# Altium integrated library Linear Technology Power Management Hot Swap Controllers.IntLib: 992 symbols (part 33 of 93)
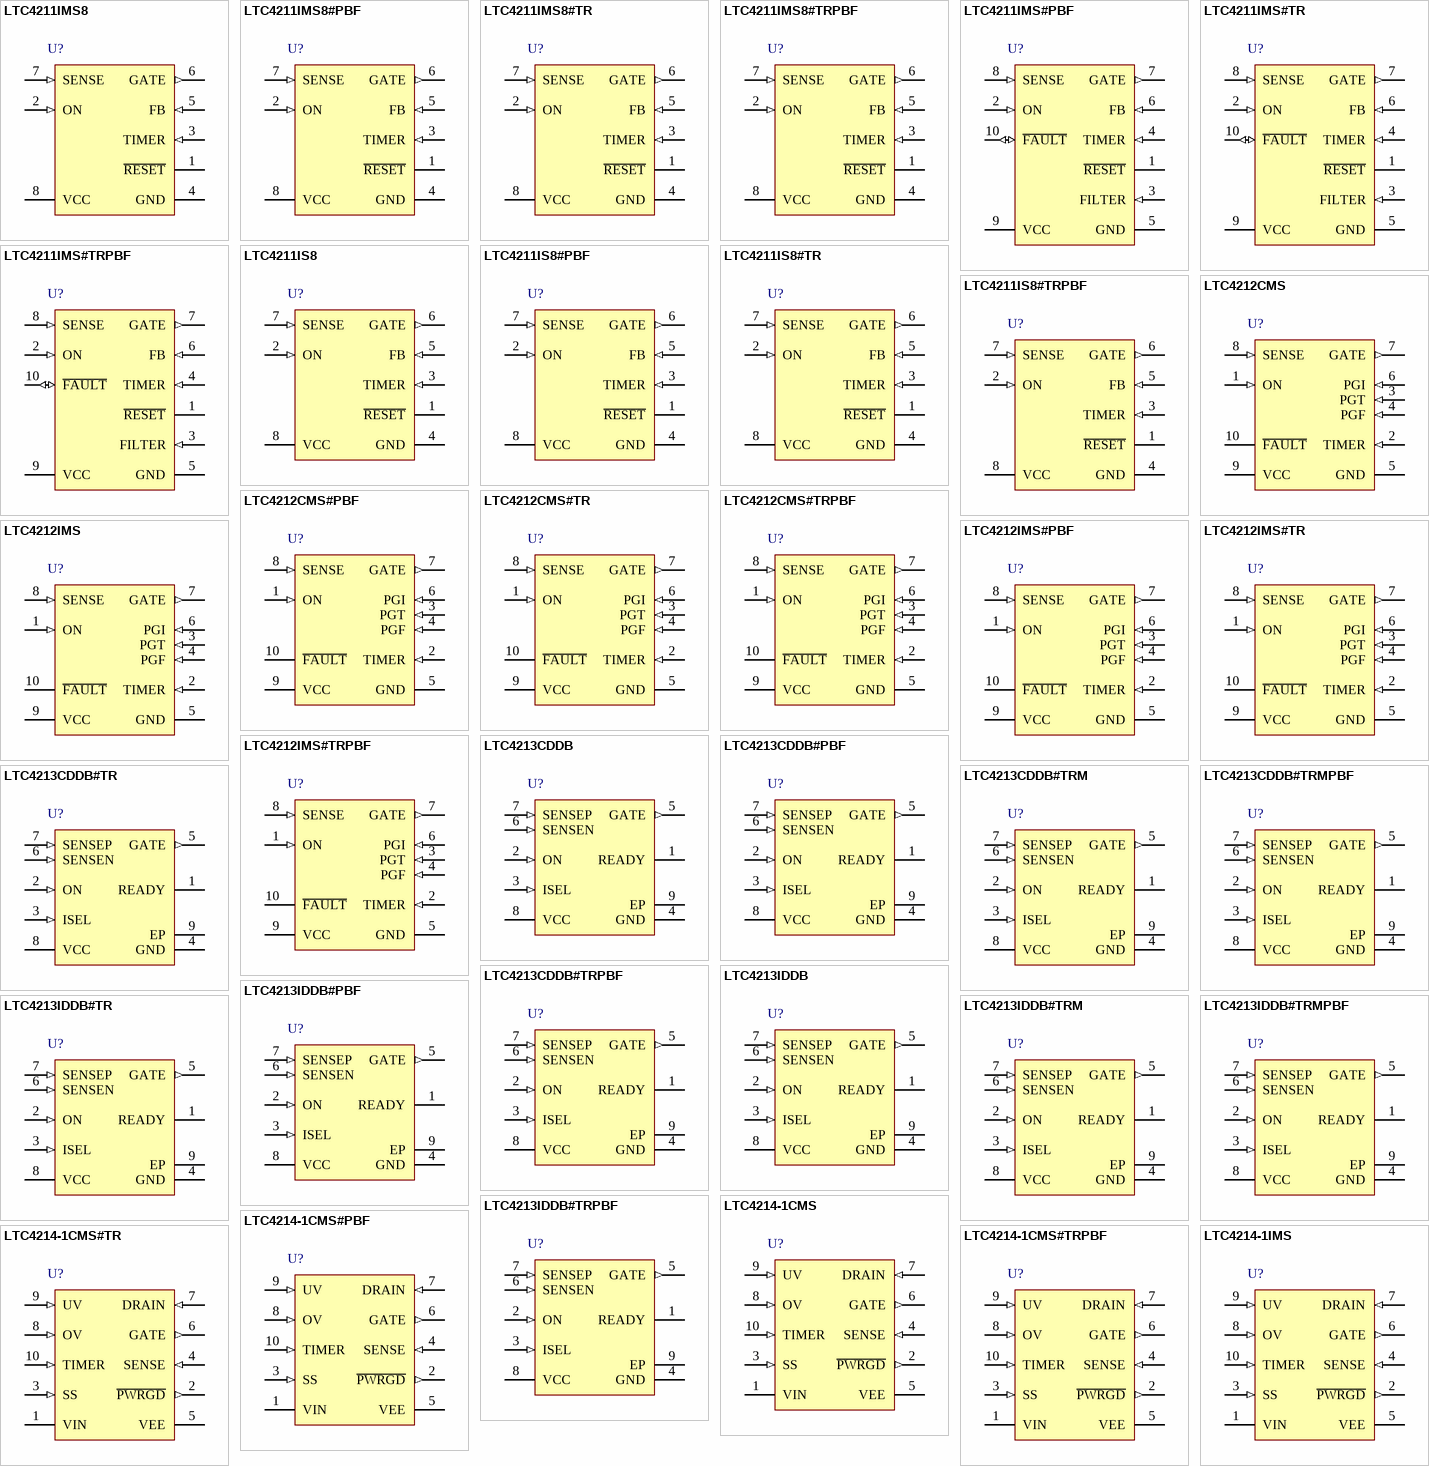
[diagram p69: symbols LTC4211IMS8 to LTC4214-1IMS]

## LTC4213CDDB#TR
designator U?
No RSENSE(TM) Electronic Circuit Breaker, 0 to 6 V Vin, 8-pin SON (DDB-8), 0 to 70 degC, Tape and Reel; Manufacturer: Linear Technology; PartNumber: LTC4213CDDB#TR; Circuit Breaker Accuracy(%): 10; Circuit Breaker Threshold: 25 mV, 50 mV, 100mV; Circuit Breakers(#): 1; Extended Temp: C, I; Fast Comparator: yes; Vin Range: 0 to 6 V; PackageVersion: Rev. B, 06/2010; PackageReference: DDB-8; PackageDescription: 8-Pin Plastic DFN, Body 3 x 2 mm, Pitch 0.5 mm; Active Limiting: no; Fault: no; Foldback: no; Packing: Tape and Reel; Power Good: no; Reset: no; RoHS: FALSE; Mounting Technology: Surface Mount; Code_JEDEC: MO-229; ComponentLink1Description: Manufacturer URL; ComponentLink1URL: http://www.linear.com/; ComponentLink2Description: Datasheet; ComponentLink2URL: http://cds.linear.com/docs/en/datasheet/4213f.pdf; ComponentLink3Description: Package Specification; ComponentLink3URL: http://cds.linear.com/docs/en/packaging/DFN_8_05-08-1702.pdf
footprint LT-DDB-8_V (SON, 8-Leads, Body 3x2mm, Pitch 0.5mm, Thermal Pad 2.2x0.61mm)
pins: 1 READY (hiz) "READY Status Output. Open drain output that goes high impedance when the external MOSFET is on and the circuit breaker is armed. Otherwise this pin pulls low.", 2 ON (in) "ON Control Input. The LTC4213 is in reset mode when the ON pin is below 0.4V. When the ON pin increases above 0.8V, the device starts up and the GATE pulls up with a 100uA current source. When the ON pin drops below 0.76V, (See Datasheet)", 3 ISEL (in) "Threshold Select Input. With the ISEL pin grounded, float or tied to VCC the VCB is set to 25mV, 50mV or 100mV, respectively. The corresponding VCB(FAST) values are 100mV, 175mV and 325mV.", 4 GND (power) "Device Ground.", 5 GATE (out) "GATE Drive Output. An internal charge pump supplies 100uA pull-up current to the gate of the external N-channel MOSFET. Internal circuitry limits the voltage between the GATE and SENSEN pins to a safe gate drive voltage of (See Datasheet)", 6 SENSEN (in) "Circuit Breaker Negative Sense Input. Connect this pin to the source of the external MOSFET. During reset or fault mode, the SENSEN pin discharges the output to ground with 280uA.", 7 SENSEP (in) "Circuit Breaker Positive Sense Input. Connect this pin to the drain of external N-channel MOSFET. The circuit breaker trips when the voltage across SENSEP and SENSEN exceeds VCB. The input common mode range of the circuit (See Datasheet)", 8 VCC (power) "Bias Supply Voltage Input. Normal operation is between 2.3V and 6V. An internal under-voltage lockout circuit disables the device when VCC < 2.07V.", 9 EP "Exposed pad may be left open or connected to device ground."

## LTC4213CDDB#TRM
designator U?
No RSENSE(TM) Electronic Circuit Breaker, 0 to 6 V Vin, 8-pin SON (DDB-8), 0 to 70 degC, Mini Tape and Reel; Manufacturer: Linear Technology; PartNumber: LTC4213CDDB#TRM; Circuit Breaker Accuracy(%): 10; Circuit Breaker Threshold: 25 mV, 50 mV, 100mV; Circuit Breakers(#): 1; Extended Temp: C, I; Fast Comparator: yes; Vin Range: 0 to 6 V; PackageVersion: Rev. B, 06/2010; PackageReference: DDB-8; PackageDescription: 8-Pin Plastic DFN, Body 3 x 2 mm, Pitch 0.5 mm; Active Limiting: no; Fault: no; Foldback: no; Packing: Mini Tape and Reel; Power Good: no; Reset: no; RoHS: FALSE; Mounting Technology: Surface Mount; Code_JEDEC: MO-229; ComponentLink1Description: Manufacturer URL; ComponentLink1URL: http://www.linear.com/; ComponentLink2Description: Datasheet; ComponentLink2URL: http://cds.linear.com/docs/en/datasheet/4213f.pdf; ComponentLink3Description: Package Specification; ComponentLink3URL: http://cds.linear.com/docs/en/packaging/DFN_8_05-08-1702.pdf
footprint LT-DDB-8_V (SON, 8-Leads, Body 3x2mm, Pitch 0.5mm, Thermal Pad 2.2x0.61mm)
pins: 1 READY (hiz) "READY Status Output. Open drain output that goes high impedance when the external MOSFET is on and the circuit breaker is armed. Otherwise this pin pulls low.", 2 ON (in) "ON Control Input. The LTC4213 is in reset mode when the ON pin is below 0.4V. When the ON pin increases above 0.8V, the device starts up and the GATE pulls up with a 100uA current source. When the ON pin drops below 0.76V, (See Datasheet)", 3 ISEL (in) "Threshold Select Input. With the ISEL pin grounded, float or tied to VCC the VCB is set to 25mV, 50mV or 100mV, respectively. The corresponding VCB(FAST) values are 100mV, 175mV and 325mV.", 4 GND (power) "Device Ground.", 5 GATE (out) "GATE Drive Output. An internal charge pump supplies 100uA pull-up current to the gate of the external N-channel MOSFET. Internal circuitry limits the voltage between the GATE and SENSEN pins to a safe gate drive voltage of (See Datasheet)", 6 SENSEN (in) "Circuit Breaker Negative Sense Input. Connect this pin to the source of the external MOSFET. During reset or fault mode, the SENSEN pin discharges the output to ground with 280uA.", 7 SENSEP (in) "Circuit Breaker Positive Sense Input. Connect this pin to the drain of external N-channel MOSFET. The circuit breaker trips when the voltage across SENSEP and SENSEN exceeds VCB. The input common mode range of the circuit (See Datasheet)", 8 VCC (power) "Bias Supply Voltage Input. Normal operation is between 2.3V and 6V. An internal under-voltage lockout circuit disables the device when VCC < 2.07V.", 9 EP "Exposed pad may be left open or connected to device ground."

## LTC4213CDDB#TRMPBF
designator U?
No RSENSE(TM) Electronic Circuit Breaker, 0 to 6 V Vin, 8-pin SON (DDB-8), 0 to 70 degC, Pb-Free, Mini Tape and Reel; Manufacturer: Linear Technology; PartNumber: LTC4213CDDB#TRMPBF; Circuit Breaker Accuracy(%): 10; Circuit Breaker Threshold: 25 mV, 50 mV, 100mV; Circuit Breakers(#): 1; Extended Temp: C, I; Fast Comparator: yes; Vin Range: 0 to 6 V; PackageVersion: Rev. B, 06/2010; PackageReference: DDB-8; PackageDescription: 8-Pin Plastic DFN, Body 3 x 2 mm, Pitch 0.5 mm; Supplier 1: Digi-Key; Supplier Part Number 1: LTC4213CDDB#TRMPBF-ND; Active Limiting: no; Fault: no; Foldback: no; Packing: Mini Tape and Reel; Power Good: no; Reset: no; RoHS: TRUE; Mounting Technology: Surface Mount; Code_JEDEC: MO-229; ComponentLink1Description: Manufacturer URL; ComponentLink1URL: http://www.linear.com/; ComponentLink2Description: Datasheet; ComponentLink2URL: http://cds.linear.com/docs/en/datasheet/4213f.pdf; ComponentLink3Description: Package Specification; ComponentLink3URL: http://cds.linear.com/docs/en/packaging/DFN_8_05-08-1702.pdf
footprint LT-DDB-8_V (SON, 8-Leads, Body 3x2mm, Pitch 0.5mm, Thermal Pad 2.2x0.61mm)
pins: 1 READY (hiz) "READY Status Output. Open drain output that goes high impedance when the external MOSFET is on and the circuit breaker is armed. Otherwise this pin pulls low.", 2 ON (in) "ON Control Input. The LTC4213 is in reset mode when the ON pin is below 0.4V. When the ON pin increases above 0.8V, the device starts up and the GATE pulls up with a 100uA current source. When the ON pin drops below 0.76V, (See Datasheet)", 3 ISEL (in) "Threshold Select Input. With the ISEL pin grounded, float or tied to VCC the VCB is set to 25mV, 50mV or 100mV, respectively. The corresponding VCB(FAST) values are 100mV, 175mV and 325mV.", 4 GND (power) "Device Ground.", 5 GATE (out) "GATE Drive Output. An internal charge pump supplies 100uA pull-up current to the gate of the external N-channel MOSFET. Internal circuitry limits the voltage between the GATE and SENSEN pins to a safe gate drive voltage of (See Datasheet)", 6 SENSEN (in) "Circuit Breaker Negative Sense Input. Connect this pin to the source of the external MOSFET. During reset or fault mode, the SENSEN pin discharges the output to ground with 280uA.", 7 SENSEP (in) "Circuit Breaker Positive Sense Input. Connect this pin to the drain of external N-channel MOSFET. The circuit breaker trips when the voltage across SENSEP and SENSEN exceeds VCB. The input common mode range of the circuit (See Datasheet)", 8 VCC (power) "Bias Supply Voltage Input. Normal operation is between 2.3V and 6V. An internal under-voltage lockout circuit disables the device when VCC < 2.07V.", 9 EP "Exposed pad may be left open or connected to device ground."

## LTC4213CDDB#TRPBF
designator U?
No RSENSE(TM) Electronic Circuit Breaker, 0 to 6 V Vin, 8-pin SON (DDB-8), 0 to 70 degC, Pb-Free, Tape and Reel; Manufacturer: Linear Technology; PartNumber: LTC4213CDDB#TRPBF; Circuit Breaker Accuracy(%): 10; Circuit Breaker Threshold: 25 mV, 50 mV, 100mV; Circuit Breakers(#): 1; Extended Temp: C, I; Fast Comparator: yes; Vin Range: 0 to 6 V; PackageVersion: Rev. B, 06/2010; PackageReference: DDB-8; PackageDescription: 8-Pin Plastic DFN, Body 3 x 2 mm, Pitch 0.5 mm; Supplier 1: Digi-Key; Supplier Part Number 1: LTC4213CDDB#TRPBF-ND; Supplier 2: Newark; Supplier Part Number 2: 56M8802; Active Limiting: no; Fault: no; Foldback: no; Packing: Tape and Reel; Power Good: no; Reset: no; RoHS: TRUE; Mounting Technology: Surface Mount; Code_JEDEC: MO-229; ComponentLink1Description: Manufacturer URL; ComponentLink1URL: http://www.linear.com/; ComponentLink2Description: Datasheet; ComponentLink2URL: http://cds.linear.com/docs/en/datasheet/4213f.pdf; ComponentLink3Description: Package Specification; ComponentLink3URL: http://cds.linear.com/docs/en/packaging/DFN_8_05-08-1702.pdf
footprint LT-DDB-8_V (SON, 8-Leads, Body 3x2mm, Pitch 0.5mm, Thermal Pad 2.2x0.61mm)
pins: 1 READY (hiz) "READY Status Output. Open drain output that goes high impedance when the external MOSFET is on and the circuit breaker is armed. Otherwise this pin pulls low.", 2 ON (in) "ON Control Input. The LTC4213 is in reset mode when the ON pin is below 0.4V. When the ON pin increases above 0.8V, the device starts up and the GATE pulls up with a 100uA current source. When the ON pin drops below 0.76V, (See Datasheet)", 3 ISEL (in) "Threshold Select Input. With the ISEL pin grounded, float or tied to VCC the VCB is set to 25mV, 50mV or 100mV, respectively. The corresponding VCB(FAST) values are 100mV, 175mV and 325mV.", 4 GND (power) "Device Ground.", 5 GATE (out) "GATE Drive Output. An internal charge pump supplies 100uA pull-up current to the gate of the external N-channel MOSFET. Internal circuitry limits the voltage between the GATE and SENSEN pins to a safe gate drive voltage of (See Datasheet)", 6 SENSEN (in) "Circuit Breaker Negative Sense Input. Connect this pin to the source of the external MOSFET. During reset or fault mode, the SENSEN pin discharges the output to ground with 280uA.", 7 SENSEP (in) "Circuit Breaker Positive Sense Input. Connect this pin to the drain of external N-channel MOSFET. The circuit breaker trips when the voltage across SENSEP and SENSEN exceeds VCB. The input common mode range of the circuit (See Datasheet)", 8 VCC (power) "Bias Supply Voltage Input. Normal operation is between 2.3V and 6V. An internal under-voltage lockout circuit disables the device when VCC < 2.07V.", 9 EP "Exposed pad may be left open or connected to device ground."

## LTC4213IDDB
designator U?
No RSENSE(TM) Electronic Circuit Breaker, 0 to 6 V Vin, 8-pin SON (DDB-8), -40 to 85 degC; Manufacturer: Linear Technology; PartNumber: LTC4213IDDB; Circuit Breaker Accuracy(%): 10; Circuit Breaker Threshold: 25 mV, 50 mV, 100mV; Circuit Breakers(#): 1; Extended Temp: C, I; Fast Comparator: yes; Vin Range: 0 to 6 V; PackageVersion: Rev. B, 06/2010; PackageReference: DDB-8; PackageDescription: 8-Pin Plastic DFN, Body 3 x 2 mm, Pitch 0.5 mm; Active Limiting: no; Fault: no; Foldback: no; Power Good: no; Reset: no; RoHS: FALSE; Mounting Technology: Surface Mount; Code_JEDEC: MO-229; ComponentLink1Description: Manufacturer URL; ComponentLink1URL: http://www.linear.com/; ComponentLink2Description: Datasheet; ComponentLink2URL: http://cds.linear.com/docs/en/datasheet/4213f.pdf; ComponentLink3Description: Package Specification; ComponentLink3URL: http://cds.linear.com/docs/en/packaging/DFN_8_05-08-1702.pdf
footprint LT-DDB-8_V (SON, 8-Leads, Body 3x2mm, Pitch 0.5mm, Thermal Pad 2.2x0.61mm)
pins: 1 READY (hiz) "READY Status Output. Open drain output that goes high impedance when the external MOSFET is on and the circuit breaker is armed. Otherwise this pin pulls low.", 2 ON (in) "ON Control Input. The LTC4213 is in reset mode when the ON pin is below 0.4V. When the ON pin increases above 0.8V, the device starts up and the GATE pulls up with a 100uA current source. When the ON pin drops below 0.76V, (See Datasheet)", 3 ISEL (in) "Threshold Select Input. With the ISEL pin grounded, float or tied to VCC the VCB is set to 25mV, 50mV or 100mV, respectively. The corresponding VCB(FAST) values are 100mV, 175mV and 325mV.", 4 GND (power) "Device Ground.", 5 GATE (out) "GATE Drive Output. An internal charge pump supplies 100uA pull-up current to the gate of the external N-channel MOSFET. Internal circuitry limits the voltage between the GATE and SENSEN pins to a safe gate drive voltage of (See Datasheet)", 6 SENSEN (in) "Circuit Breaker Negative Sense Input. Connect this pin to the source of the external MOSFET. During reset or fault mode, the SENSEN pin discharges the output to ground with 280uA.", 7 SENSEP (in) "Circuit Breaker Positive Sense Input. Connect this pin to the drain of external N-channel MOSFET. The circuit breaker trips when the voltage across SENSEP and SENSEN exceeds VCB. The input common mode range of the circuit (See Datasheet)", 8 VCC (power) "Bias Supply Voltage Input. Normal operation is between 2.3V and 6V. An internal under-voltage lockout circuit disables the device when VCC < 2.07V.", 9 EP "Exposed pad may be left open or connected to device ground."

## LTC4213IDDB#PBF
designator U?
No RSENSE(TM) Electronic Circuit Breaker, 0 to 6 V Vin, 8-pin SON (DDB-8), -40 to 85 degC, Pb-Free; Manufacturer: Linear Technology; PartNumber: LTC4213IDDB#PBF; Circuit Breaker Accuracy(%): 10; Circuit Breaker Threshold: 25 mV, 50 mV, 100mV; Circuit Breakers(#): 1; Extended Temp: C, I; Fast Comparator: yes; Vin Range: 0 to 6 V; PackageVersion: Rev. B, 06/2010; PackageReference: DDB-8; PackageDescription: 8-Pin Plastic DFN, Body 3 x 2 mm, Pitch 0.5 mm; Supplier 1: Newark; Supplier Part Number 1: 78T3315; Active Limiting: no; Fault: no; Foldback: no; Power Good: no; Reset: no; RoHS: TRUE; Mounting Technology: Surface Mount; Code_JEDEC: MO-229; ComponentLink1Description: Manufacturer URL; ComponentLink1URL: http://www.linear.com/; ComponentLink2Description: Datasheet; ComponentLink2URL: http://cds.linear.com/docs/en/datasheet/4213f.pdf; ComponentLink3Description: Package Specification; ComponentLink3URL: http://cds.linear.com/docs/en/packaging/DFN_8_05-08-1702.pdf
footprint LT-DDB-8_V (SON, 8-Leads, Body 3x2mm, Pitch 0.5mm, Thermal Pad 2.2x0.61mm)
pins: 1 READY (hiz) "READY Status Output. Open drain output that goes high impedance when the external MOSFET is on and the circuit breaker is armed. Otherwise this pin pulls low.", 2 ON (in) "ON Control Input. The LTC4213 is in reset mode when the ON pin is below 0.4V. When the ON pin increases above 0.8V, the device starts up and the GATE pulls up with a 100uA current source. When the ON pin drops below 0.76V, (See Datasheet)", 3 ISEL (in) "Threshold Select Input. With the ISEL pin grounded, float or tied to VCC the VCB is set to 25mV, 50mV or 100mV, respectively. The corresponding VCB(FAST) values are 100mV, 175mV and 325mV.", 4 GND (power) "Device Ground.", 5 GATE (out) "GATE Drive Output. An internal charge pump supplies 100uA pull-up current to the gate of the external N-channel MOSFET. Internal circuitry limits the voltage between the GATE and SENSEN pins to a safe gate drive voltage of (See Datasheet)", 6 SENSEN (in) "Circuit Breaker Negative Sense Input. Connect this pin to the source of the external MOSFET. During reset or fault mode, the SENSEN pin discharges the output to ground with 280uA.", 7 SENSEP (in) "Circuit Breaker Positive Sense Input. Connect this pin to the drain of external N-channel MOSFET. The circuit breaker trips when the voltage across SENSEP and SENSEN exceeds VCB. The input common mode range of the circuit (See Datasheet)", 8 VCC (power) "Bias Supply Voltage Input. Normal operation is between 2.3V and 6V. An internal under-voltage lockout circuit disables the device when VCC < 2.07V.", 9 EP "Exposed pad may be left open or connected to device ground."

## LTC4213IDDB#TR
designator U?
No RSENSE(TM) Electronic Circuit Breaker, 0 to 6 V Vin, 8-pin SON (DDB-8), -40 to 85 degC, Tape and Reel; Manufacturer: Linear Technology; PartNumber: LTC4213IDDB#TR; Circuit Breaker Accuracy(%): 10; Circuit Breaker Threshold: 25 mV, 50 mV, 100mV; Circuit Breakers(#): 1; Extended Temp: C, I; Fast Comparator: yes; Vin Range: 0 to 6 V; PackageVersion: Rev. B, 06/2010; PackageReference: DDB-8; PackageDescription: 8-Pin Plastic DFN, Body 3 x 2 mm, Pitch 0.5 mm; Active Limiting: no; Fault: no; Foldback: no; Packing: Tape and Reel; Power Good: no; Reset: no; RoHS: FALSE; Mounting Technology: Surface Mount; Code_JEDEC: MO-229; ComponentLink1Description: Manufacturer URL; ComponentLink1URL: http://www.linear.com/; ComponentLink2Description: Datasheet; ComponentLink2URL: http://cds.linear.com/docs/en/datasheet/4213f.pdf; ComponentLink3Description: Package Specification; ComponentLink3URL: http://cds.linear.com/docs/en/packaging/DFN_8_05-08-1702.pdf
footprint LT-DDB-8_V (SON, 8-Leads, Body 3x2mm, Pitch 0.5mm, Thermal Pad 2.2x0.61mm)
pins: 1 READY (hiz) "READY Status Output. Open drain output that goes high impedance when the external MOSFET is on and the circuit breaker is armed. Otherwise this pin pulls low.", 2 ON (in) "ON Control Input. The LTC4213 is in reset mode when the ON pin is below 0.4V. When the ON pin increases above 0.8V, the device starts up and the GATE pulls up with a 100uA current source. When the ON pin drops below 0.76V, (See Datasheet)", 3 ISEL (in) "Threshold Select Input. With the ISEL pin grounded, float or tied to VCC the VCB is set to 25mV, 50mV or 100mV, respectively. The corresponding VCB(FAST) values are 100mV, 175mV and 325mV.", 4 GND (power) "Device Ground.", 5 GATE (out) "GATE Drive Output. An internal charge pump supplies 100uA pull-up current to the gate of the external N-channel MOSFET. Internal circuitry limits the voltage between the GATE and SENSEN pins to a safe gate drive voltage of (See Datasheet)", 6 SENSEN (in) "Circuit Breaker Negative Sense Input. Connect this pin to the source of the external MOSFET. During reset or fault mode, the SENSEN pin discharges the output to ground with 280uA.", 7 SENSEP (in) "Circuit Breaker Positive Sense Input. Connect this pin to the drain of external N-channel MOSFET. The circuit breaker trips when the voltage across SENSEP and SENSEN exceeds VCB. The input common mode range of the circuit (See Datasheet)", 8 VCC (power) "Bias Supply Voltage Input. Normal operation is between 2.3V and 6V. An internal under-voltage lockout circuit disables the device when VCC < 2.07V.", 9 EP "Exposed pad may be left open or connected to device ground."

## LTC4213IDDB#TRM
designator U?
No RSENSE(TM) Electronic Circuit Breaker, 0 to 6 V Vin, 8-pin SON (DDB-8), -40 to 85 degC, Mini Tape and Reel; Manufacturer: Linear Technology; PartNumber: LTC4213IDDB#TRM; Circuit Breaker Accuracy(%): 10; Circuit Breaker Threshold: 25 mV, 50 mV, 100mV; Circuit Breakers(#): 1; Extended Temp: C, I; Fast Comparator: yes; Vin Range: 0 to 6 V; PackageVersion: Rev. B, 06/2010; PackageReference: DDB-8; PackageDescription: 8-Pin Plastic DFN, Body 3 x 2 mm, Pitch 0.5 mm; Active Limiting: no; Fault: no; Foldback: no; Packing: Mini Tape and Reel; Power Good: no; Reset: no; RoHS: FALSE; Mounting Technology: Surface Mount; Code_JEDEC: MO-229; ComponentLink1Description: Manufacturer URL; ComponentLink1URL: http://www.linear.com/; ComponentLink2Description: Datasheet; ComponentLink2URL: http://cds.linear.com/docs/en/datasheet/4213f.pdf; ComponentLink3Description: Package Specification; ComponentLink3URL: http://cds.linear.com/docs/en/packaging/DFN_8_05-08-1702.pdf
footprint LT-DDB-8_V (SON, 8-Leads, Body 3x2mm, Pitch 0.5mm, Thermal Pad 2.2x0.61mm)
pins: 1 READY (hiz) "READY Status Output. Open drain output that goes high impedance when the external MOSFET is on and the circuit breaker is armed. Otherwise this pin pulls low.", 2 ON (in) "ON Control Input. The LTC4213 is in reset mode when the ON pin is below 0.4V. When the ON pin increases above 0.8V, the device starts up and the GATE pulls up with a 100uA current source. When the ON pin drops below 0.76V, (See Datasheet)", 3 ISEL (in) "Threshold Select Input. With the ISEL pin grounded, float or tied to VCC the VCB is set to 25mV, 50mV or 100mV, respectively. The corresponding VCB(FAST) values are 100mV, 175mV and 325mV.", 4 GND (power) "Device Ground.", 5 GATE (out) "GATE Drive Output. An internal charge pump supplies 100uA pull-up current to the gate of the external N-channel MOSFET. Internal circuitry limits the voltage between the GATE and SENSEN pins to a safe gate drive voltage of (See Datasheet)", 6 SENSEN (in) "Circuit Breaker Negative Sense Input. Connect this pin to the source of the external MOSFET. During reset or fault mode, the SENSEN pin discharges the output to ground with 280uA.", 7 SENSEP (in) "Circuit Breaker Positive Sense Input. Connect this pin to the drain of external N-channel MOSFET. The circuit breaker trips when the voltage across SENSEP and SENSEN exceeds VCB. The input common mode range of the circuit (See Datasheet)", 8 VCC (power) "Bias Supply Voltage Input. Normal operation is between 2.3V and 6V. An internal under-voltage lockout circuit disables the device when VCC < 2.07V.", 9 EP "Exposed pad may be left open or connected to device ground."

## LTC4213IDDB#TRMPBF
designator U?
No RSENSE(TM) Electronic Circuit Breaker, 0 to 6 V Vin, 8-pin SON (DDB-8), -40 to 85 degC, Pb-Free, Mini Tape and Reel; Manufacturer: Linear Technology; PartNumber: LTC4213IDDB#TRMPBF; Circuit Breaker Accuracy(%): 10; Circuit Breaker Threshold: 25 mV, 50 mV, 100mV; Circuit Breakers(#): 1; Extended Temp: C, I; Fast Comparator: yes; Vin Range: 0 to 6 V; PackageVersion: Rev. B, 06/2010; PackageReference: DDB-8; PackageDescription: 8-Pin Plastic DFN, Body 3 x 2 mm, Pitch 0.5 mm; Supplier 1: Digi-Key; Supplier Part Number 1: LTC4213IDDB#TRMPBFTR-ND; Supplier 2: Digi-Key; Supplier Part Number 2: LTC4213IDDB#TRMPBFCT-ND; Supplier 3: Digi-Key; Supplier Part Number 3: LTC4213IDDB#TRMPBFDKR-ND; Active Limiting: no; Fault: no; Foldback: no; Packing: Mini Tape and Reel; Power Good: no; Reset: no; RoHS: TRUE; Mounting Technology: Surface Mount; Code_JEDEC: MO-229; ComponentLink1Description: Manufacturer URL; ComponentLink1URL: http://www.linear.com/; ComponentLink2Description: Datasheet; ComponentLink2URL: http://cds.linear.com/docs/en/datasheet/4213f.pdf; ComponentLink3Description: Package Specification; ComponentLink3URL: http://cds.linear.com/docs/en/packaging/DFN_8_05-08-1702.pdf
footprint LT-DDB-8_V (SON, 8-Leads, Body 3x2mm, Pitch 0.5mm, Thermal Pad 2.2x0.61mm)
pins: 1 READY (hiz) "READY Status Output. Open drain output that goes high impedance when the external MOSFET is on and the circuit breaker is armed. Otherwise this pin pulls low.", 2 ON (in) "ON Control Input. The LTC4213 is in reset mode when the ON pin is below 0.4V. When the ON pin increases above 0.8V, the device starts up and the GATE pulls up with a 100uA current source. When the ON pin drops below 0.76V, (See Datasheet)", 3 ISEL (in) "Threshold Select Input. With the ISEL pin grounded, float or tied to VCC the VCB is set to 25mV, 50mV or 100mV, respectively. The corresponding VCB(FAST) values are 100mV, 175mV and 325mV.", 4 GND (power) "Device Ground.", 5 GATE (out) "GATE Drive Output. An internal charge pump supplies 100uA pull-up current to the gate of the external N-channel MOSFET. Internal circuitry limits the voltage between the GATE and SENSEN pins to a safe gate drive voltage of (See Datasheet)", 6 SENSEN (in) "Circuit Breaker Negative Sense Input. Connect this pin to the source of the external MOSFET. During reset or fault mode, the SENSEN pin discharges the output to ground with 280uA.", 7 SENSEP (in) "Circuit Breaker Positive Sense Input. Connect this pin to the drain of external N-channel MOSFET. The circuit breaker trips when the voltage across SENSEP and SENSEN exceeds VCB. The input common mode range of the circuit (See Datasheet)", 8 VCC (power) "Bias Supply Voltage Input. Normal operation is between 2.3V and 6V. An internal under-voltage lockout circuit disables the device when VCC < 2.07V.", 9 EP "Exposed pad may be left open or connected to device ground."

## LTC4213IDDB#TRPBF
designator U?
No RSENSE(TM) Electronic Circuit Breaker, 0 to 6 V Vin, 8-pin SON (DDB-8), -40 to 85 degC, Pb-Free, Tape and Reel; Manufacturer: Linear Technology; PartNumber: LTC4213IDDB#TRPBF; Circuit Breaker Accuracy(%): 10; Circuit Breaker Threshold: 25 mV, 50 mV, 100mV; Circuit Breakers(#): 1; Extended Temp: C, I; Fast Comparator: yes; Vin Range: 0 to 6 V; PackageVersion: Rev. B, 06/2010; PackageReference: DDB-8; PackageDescription: 8-Pin Plastic DFN, Body 3 x 2 mm, Pitch 0.5 mm; Supplier 1: Digi-Key; Supplier Part Number 1: LTC4213IDDB#TRPBF-ND; Supplier 2: Newark; Supplier Part Number 2: 56M8806; Active Limiting: no; Fault: no; Foldback: no; Packing: Tape and Reel; Power Good: no; Reset: no; RoHS: TRUE; Mounting Technology: Surface Mount; Code_JEDEC: MO-229; ComponentLink1Description: Manufacturer URL; ComponentLink1URL: http://www.linear.com/; ComponentLink2Description: Datasheet; ComponentLink2URL: http://cds.linear.com/docs/en/datasheet/4213f.pdf; ComponentLink3Description: Package Specification; ComponentLink3URL: http://cds.linear.com/docs/en/packaging/DFN_8_05-08-1702.pdf
footprint LT-DDB-8_V (SON, 8-Leads, Body 3x2mm, Pitch 0.5mm, Thermal Pad 2.2x0.61mm)
pins: 1 READY (hiz) "READY Status Output. Open drain output that goes high impedance when the external MOSFET is on and the circuit breaker is armed. Otherwise this pin pulls low.", 2 ON (in) "ON Control Input. The LTC4213 is in reset mode when the ON pin is below 0.4V. When the ON pin increases above 0.8V, the device starts up and the GATE pulls up with a 100uA current source. When the ON pin drops below 0.76V, (See Datasheet)", 3 ISEL (in) "Threshold Select Input. With the ISEL pin grounded, float or tied to VCC the VCB is set to 25mV, 50mV or 100mV, respectively. The corresponding VCB(FAST) values are 100mV, 175mV and 325mV.", 4 GND (power) "Device Ground.", 5 GATE (out) "GATE Drive Output. An internal charge pump supplies 100uA pull-up current to the gate of the external N-channel MOSFET. Internal circuitry limits the voltage between the GATE and SENSEN pins to a safe gate drive voltage of (See Datasheet)", 6 SENSEN (in) "Circuit Breaker Negative Sense Input. Connect this pin to the source of the external MOSFET. During reset or fault mode, the SENSEN pin discharges the output to ground with 280uA.", 7 SENSEP (in) "Circuit Breaker Positive Sense Input. Connect this pin to the drain of external N-channel MOSFET. The circuit breaker trips when the voltage across SENSEP and SENSEN exceeds VCB. The input common mode range of the circuit (See Datasheet)", 8 VCC (power) "Bias Supply Voltage Input. Normal operation is between 2.3V and 6V. An internal under-voltage lockout circuit disables the device when VCC < 2.07V.", 9 EP "Exposed pad may be left open or connected to device ground."

## LTC4214-1CMS
designator U?
Negative Low Voltage Hot Swap Controller, -6 to -16 V Vin, 10-pin SOP (MS-10), 0 to 70 degC; Manufacturer: Linear Technology; PartNumber: LTC4214-1CMS; Active Limiting: yes; Circuit Breaker Accuracy(%): 12; Circuit Breaker Threshold: 50 mV; Circuit Breakers(#): 1; Extended Temp: C, I; Fault: no; In-Rush Current: Active; PackageVersion: Rev. E, 06/2010; PackageReference: MS-10; PackageDescription: 10-Pin Plastic MSOP, Body 3 x 3 mm, Pitch 0.5 mm; Supplier 1: Digi-Key; Supplier Part Number 1: LTC4214-1CMS-ND; Fast Comparator: yes; Foldback: no; Power Good: yes; Reset: no; RoHS: FALSE; Vin Range: -6 to -16 V; Mounting Technology: Surface Mount; ComponentLink1Description: Manufacturer URL; ComponentLink1URL: http://www.linear.com/; ComponentLink2Description: Datasheet; ComponentLink2URL: http://cds.linear.com/docs/en/datasheet/421412f.pdf; ComponentLink3Description: Package Specification; ComponentLink3URL: http://cds.linear.com/docs/en/packaging/05081661_F_MS.pdf
footprint LT-MS-10_N (SOP, 10-Leads, Body 3.1x3.1mm, Pitch 0.5mm, IPC Medium Density)
footprint LT-MS-10_L (SOP, 10-Leads, Body 3.1x3.1mm, Pitch 0.5mm, IPC High Density)
footprint LT-MS-10_M (SOP, 10-Leads, Body 3.1x3.1mm, Pitch 0.5mm, IPC Low Density)
pins: 1 VIN (power) "Positive Supply Input. Connect this pin to the positive side of the supply through a dropping resistor. A shunt regulator clamps VIN at 13V. An internal undervoltage lockout (UVLO) circuit holds GATE low until the VIN pin is (See Datasheet)", 2 ~{PWRGD} (out) "Power Good Status Output (MS only). At start-up, P\W\R\G\D\ latches low if DRAIN is below 2.385V and GATE is within 2.8V of VIN. P\W\R\G\D\ status is reset by UV, VIN (UVLO) or a circuit breaker fault timeout. This pin is (See Datasheet)", 3 SS (in) "Soft-Start Pin. This pin is used to ramp inrush current during start up, thereby effecting control over di/dt. A 20x attenuated version of the SS pin voltage is presented to the current limit amplifier. This attenuated (See Datasheet)", 4 SENSE (in) "Circuit Breaker/Current Limit Sense Pin. Load current is monitored by a sense resistor RS connected between SENSE and VEE, and controlled in three steps. If SENSE exceeds VCB (50mV), the circuit breaker comparator activates (See Datasheet)", 5 VEE (power) "Negative Supply Voltage Input. Connect this pin to the negative side of the power supply.", 6 GATE (out) "N-Channel MOSFET Gate Drive Output. This pin is pulled high by a 58uA current source. GATE is pulled low by invalid conditions at VIN (UVLO), UV, OV, or a circuit breaker fault timeout. GATE is actively servoed to control (See Datasheet)", 7 DRAIN (in) "Drain Sense Input. Connecting an external resistor, RD, between this pin and the MOSFET’s drain (VOUT) allows voltage sensing below 6.15V (5V for LTC4252C) and current feedback to TIMER. A comparator detects if DRAIN i(See Datasheet)", 8 OV (in) "Overvoltage Input. The active high threshold at the OV pin is set at 6.15V with 0.6V hysteresis. If OV > 6.15V, GATE pulls low. When OV returns below 5.55V, GATE start-up begins without an initial timing cycle. The LTC4252C (See Datasheet)", 9 UV (in) "Undervoltage Input. The active low threshold at the UV pin is set at 2.925V with 0.3V hysteresis. If UV < 2.925V, P\W\R\G\D\ pulls high, both GATE and TIMER pull low. If UV rises above 3.225V, this initiates an initial (See Datasheet)", 10 TIMER (in) "Timer Input. TIMER is used to generate an initial timing delay at start-up and to delay shutdown in the event of an output overload (circuit breaker fault). TIMER starts an initial timing cycle when the following conditions (See Datasheet)"

## LTC4214-1CMS#PBF
designator U?
Negative Low Voltage Hot Swap Controller, -6 to -16 V Vin, 10-pin SOP (MS-10), 0 to 70 degC, Pb-Free; Manufacturer: Linear Technology; PartNumber: LTC4214-1CMS#PBF; Active Limiting: yes; Circuit Breaker Accuracy(%): 12; Circuit Breaker Threshold: 50 mV; Circuit Breakers(#): 1; Extended Temp: C, I; Fault: no; In-Rush Current: Active; PackageVersion: Rev. E, 06/2010; PackageReference: MS-10; PackageDescription: 10-Pin Plastic MSOP, Body 3 x 3 mm, Pitch 0.5 mm; Supplier 1: Digi-Key; Supplier Part Number 1: LTC4214-1CMS#PBF-ND; Fast Comparator: yes; Foldback: no; Power Good: yes; Reset: no; RoHS: TRUE; Vin Range: -6 to -16 V; Mounting Technology: Surface Mount; ComponentLink1Description: Manufacturer URL; ComponentLink1URL: http://www.linear.com/; ComponentLink2Description: Datasheet; ComponentLink2URL: http://cds.linear.com/docs/en/datasheet/421412f.pdf; ComponentLink3Description: Package Specification; ComponentLink3URL: http://cds.linear.com/docs/en/packaging/05081661_F_MS.pdf
footprint LT-MS-10_N (SOP, 10-Leads, Body 3.1x3.1mm, Pitch 0.5mm, IPC Medium Density)
footprint LT-MS-10_L (SOP, 10-Leads, Body 3.1x3.1mm, Pitch 0.5mm, IPC High Density)
footprint LT-MS-10_M (SOP, 10-Leads, Body 3.1x3.1mm, Pitch 0.5mm, IPC Low Density)
pins: 1 VIN (power) "Positive Supply Input. Connect this pin to the positive side of the supply through a dropping resistor. A shunt regulator clamps VIN at 13V. An internal undervoltage lockout (UVLO) circuit holds GATE low until the VIN pin is (See Datasheet)", 2 ~{PWRGD} (out) "Power Good Status Output (MS only). At start-up, P\W\R\G\D\ latches low if DRAIN is below 2.385V and GATE is within 2.8V of VIN. P\W\R\G\D\ status is reset by UV, VIN (UVLO) or a circuit breaker fault timeout. This pin is (See Datasheet)", 3 SS (in) "Soft-Start Pin. This pin is used to ramp inrush current during start up, thereby effecting control over di/dt. A 20x attenuated version of the SS pin voltage is presented to the current limit amplifier. This attenuated (See Datasheet)", 4 SENSE (in) "Circuit Breaker/Current Limit Sense Pin. Load current is monitored by a sense resistor RS connected between SENSE and VEE, and controlled in three steps. If SENSE exceeds VCB (50mV), the circuit breaker comparator activates (See Datasheet)", 5 VEE (power) "Negative Supply Voltage Input. Connect this pin to the negative side of the power supply.", 6 GATE (out) "N-Channel MOSFET Gate Drive Output. This pin is pulled high by a 58uA current source. GATE is pulled low by invalid conditions at VIN (UVLO), UV, OV, or a circuit breaker fault timeout. GATE is actively servoed to control (See Datasheet)", 7 DRAIN (in) "Drain Sense Input. Connecting an external resistor, RD, between this pin and the MOSFET’s drain (VOUT) allows voltage sensing below 6.15V (5V for LTC4252C) and current feedback to TIMER. A comparator detects if DRAIN i(See Datasheet)", 8 OV (in) "Overvoltage Input. The active high threshold at the OV pin is set at 6.15V with 0.6V hysteresis. If OV > 6.15V, GATE pulls low. When OV returns below 5.55V, GATE start-up begins without an initial timing cycle. The LTC4252C (See Datasheet)", 9 UV (in) "Undervoltage Input. The active low threshold at the UV pin is set at 2.925V with 0.3V hysteresis. If UV < 2.925V, P\W\R\G\D\ pulls high, both GATE and TIMER pull low. If UV rises above 3.225V, this initiates an initial (See Datasheet)", 10 TIMER (in) "Timer Input. TIMER is used to generate an initial timing delay at start-up and to delay shutdown in the event of an output overload (circuit breaker fault). TIMER starts an initial timing cycle when the following conditions (See Datasheet)"

## LTC4214-1CMS#TR
designator U?
Negative Low Voltage Hot Swap Controller, -6 to -16 V Vin, 10-pin SOP (MS-10), 0 to 70 degC, Tape and Reel; Manufacturer: Linear Technology; PartNumber: LTC4214-1CMS#TR; Active Limiting: yes; Circuit Breaker Accuracy(%): 12; Circuit Breaker Threshold: 50 mV; Circuit Breakers(#): 1; Extended Temp: C, I; Fault: no; In-Rush Current: Active; PackageVersion: Rev. E, 06/2010; PackageReference: MS-10; PackageDescription: 10-Pin Plastic MSOP, Body 3 x 3 mm, Pitch 0.5 mm; Supplier 1: Digi-Key; Supplier Part Number 1: LTC4214-1CMS#TR-ND; Fast Comparator: yes; Foldback: no; Packing: Tape and Reel; Power Good: yes; Reset: no; RoHS: FALSE; Vin Range: -6 to -16 V; Mounting Technology: Surface Mount; ComponentLink1Description: Manufacturer URL; ComponentLink1URL: http://www.linear.com/; ComponentLink2Description: Datasheet; ComponentLink2URL: http://cds.linear.com/docs/en/datasheet/421412f.pdf; ComponentLink3Description: Package Specification; ComponentLink3URL: http://cds.linear.com/docs/en/packaging/05081661_F_MS.pdf
footprint LT-MS-10_N (SOP, 10-Leads, Body 3.1x3.1mm, Pitch 0.5mm, IPC Medium Density)
footprint LT-MS-10_L (SOP, 10-Leads, Body 3.1x3.1mm, Pitch 0.5mm, IPC High Density)
footprint LT-MS-10_M (SOP, 10-Leads, Body 3.1x3.1mm, Pitch 0.5mm, IPC Low Density)
pins: 1 VIN (power) "Positive Supply Input. Connect this pin to the positive side of the supply through a dropping resistor. A shunt regulator clamps VIN at 13V. An internal undervoltage lockout (UVLO) circuit holds GATE low until the VIN pin is (See Datasheet)", 2 ~{PWRGD} (out) "Power Good Status Output (MS only). At start-up, P\W\R\G\D\ latches low if DRAIN is below 2.385V and GATE is within 2.8V of VIN. P\W\R\G\D\ status is reset by UV, VIN (UVLO) or a circuit breaker fault timeout. This pin is (See Datasheet)", 3 SS (in) "Soft-Start Pin. This pin is used to ramp inrush current during start up, thereby effecting control over di/dt. A 20x attenuated version of the SS pin voltage is presented to the current limit amplifier. This attenuated (See Datasheet)", 4 SENSE (in) "Circuit Breaker/Current Limit Sense Pin. Load current is monitored by a sense resistor RS connected between SENSE and VEE, and controlled in three steps. If SENSE exceeds VCB (50mV), the circuit breaker comparator activates (See Datasheet)", 5 VEE (power) "Negative Supply Voltage Input. Connect this pin to the negative side of the power supply.", 6 GATE (out) "N-Channel MOSFET Gate Drive Output. This pin is pulled high by a 58uA current source. GATE is pulled low by invalid conditions at VIN (UVLO), UV, OV, or a circuit breaker fault timeout. GATE is actively servoed to control (See Datasheet)", 7 DRAIN (in) "Drain Sense Input. Connecting an external resistor, RD, between this pin and the MOSFET’s drain (VOUT) allows voltage sensing below 6.15V (5V for LTC4252C) and current feedback to TIMER. A comparator detects if DRAIN i(See Datasheet)", 8 OV (in) "Overvoltage Input. The active high threshold at the OV pin is set at 6.15V with 0.6V hysteresis. If OV > 6.15V, GATE pulls low. When OV returns below 5.55V, GATE start-up begins without an initial timing cycle. The LTC4252C (See Datasheet)", 9 UV (in) "Undervoltage Input. The active low threshold at the UV pin is set at 2.925V with 0.3V hysteresis. If UV < 2.925V, P\W\R\G\D\ pulls high, both GATE and TIMER pull low. If UV rises above 3.225V, this initiates an initial (See Datasheet)", 10 TIMER (in) "Timer Input. TIMER is used to generate an initial timing delay at start-up and to delay shutdown in the event of an output overload (circuit breaker fault). TIMER starts an initial timing cycle when the following conditions (See Datasheet)"

## LTC4214-1CMS#TRPBF
designator U?
Negative Low Voltage Hot Swap Controller, -6 to -16 V Vin, 10-pin SOP (MS-10), 0 to 70 degC, Pb-Free, Tape and Reel; Manufacturer: Linear Technology; PartNumber: LTC4214-1CMS#TRPBF; Active Limiting: yes; Circuit Breaker Accuracy(%): 12; Circuit Breaker Threshold: 50 mV; Circuit Breakers(#): 1; Extended Temp: C, I; Fault: no; In-Rush Current: Active; PackageVersion: Rev. E, 06/2010; PackageReference: MS-10; PackageDescription: 10-Pin Plastic MSOP, Body 3 x 3 mm, Pitch 0.5 mm; Supplier 1: Digi-Key; Supplier Part Number 1: LTC4214-1CMS#TRPBF-ND; Fast Comparator: yes; Foldback: no; Packing: Tape and Reel; Power Good: yes; Reset: no; RoHS: TRUE; Vin Range: -6 to -16 V; Mounting Technology: Surface Mount; ComponentLink1Description: Manufacturer URL; ComponentLink1URL: http://www.linear.com/; ComponentLink2Description: Datasheet; ComponentLink2URL: http://cds.linear.com/docs/en/datasheet/421412f.pdf; ComponentLink3Description: Package Specification; ComponentLink3URL: http://cds.linear.com/docs/en/packaging/05081661_F_MS.pdf
footprint LT-MS-10_N (SOP, 10-Leads, Body 3.1x3.1mm, Pitch 0.5mm, IPC Medium Density)
footprint LT-MS-10_L (SOP, 10-Leads, Body 3.1x3.1mm, Pitch 0.5mm, IPC High Density)
footprint LT-MS-10_M (SOP, 10-Leads, Body 3.1x3.1mm, Pitch 0.5mm, IPC Low Density)
pins: 1 VIN (power) "Positive Supply Input. Connect this pin to the positive side of the supply through a dropping resistor. A shunt regulator clamps VIN at 13V. An internal undervoltage lockout (UVLO) circuit holds GATE low until the VIN pin is (See Datasheet)", 2 ~{PWRGD} (out) "Power Good Status Output (MS only). At start-up, P\W\R\G\D\ latches low if DRAIN is below 2.385V and GATE is within 2.8V of VIN. P\W\R\G\D\ status is reset by UV, VIN (UVLO) or a circuit breaker fault timeout. This pin is (See Datasheet)", 3 SS (in) "Soft-Start Pin. This pin is used to ramp inrush current during start up, thereby effecting control over di/dt. A 20x attenuated version of the SS pin voltage is presented to the current limit amplifier. This attenuated (See Datasheet)", 4 SENSE (in) "Circuit Breaker/Current Limit Sense Pin. Load current is monitored by a sense resistor RS connected between SENSE and VEE, and controlled in three steps. If SENSE exceeds VCB (50mV), the circuit breaker comparator activates (See Datasheet)", 5 VEE (power) "Negative Supply Voltage Input. Connect this pin to the negative side of the power supply.", 6 GATE (out) "N-Channel MOSFET Gate Drive Output. This pin is pulled high by a 58uA current source. GATE is pulled low by invalid conditions at VIN (UVLO), UV, OV, or a circuit breaker fault timeout. GATE is actively servoed to control (See Datasheet)", 7 DRAIN (in) "Drain Sense Input. Connecting an external resistor, RD, between this pin and the MOSFET’s drain (VOUT) allows voltage sensing below 6.15V (5V for LTC4252C) and current feedback to TIMER. A comparator detects if DRAIN i(See Datasheet)", 8 OV (in) "Overvoltage Input. The active high threshold at the OV pin is set at 6.15V with 0.6V hysteresis. If OV > 6.15V, GATE pulls low. When OV returns below 5.55V, GATE start-up begins without an initial timing cycle. The LTC4252C (See Datasheet)", 9 UV (in) "Undervoltage Input. The active low threshold at the UV pin is set at 2.925V with 0.3V hysteresis. If UV < 2.925V, P\W\R\G\D\ pulls high, both GATE and TIMER pull low. If UV rises above 3.225V, this initiates an initial (See Datasheet)", 10 TIMER (in) "Timer Input. TIMER is used to generate an initial timing delay at start-up and to delay shutdown in the event of an output overload (circuit breaker fault). TIMER starts an initial timing cycle when the following conditions (See Datasheet)"

## LTC4214-1IMS
designator U?
Negative Low Voltage Hot Swap Controller, -6 to -16 V Vin, 10-pin SOP (MS-10), -40 to 85 degC; Manufacturer: Linear Technology; PartNumber: LTC4214-1IMS; Active Limiting: yes; Circuit Breaker Accuracy(%): 12; Circuit Breaker Threshold: 50 mV; Circuit Breakers(#): 1; Extended Temp: C, I; Fault: no; In-Rush Current: Active; PackageVersion: Rev. E, 06/2010; PackageReference: MS-10; PackageDescription: 10-Pin Plastic MSOP, Body 3 x 3 mm, Pitch 0.5 mm; Supplier 1: Digi-Key; Supplier Part Number 1: LTC4214-1IMS-ND; Fast Comparator: yes; Foldback: no; Power Good: yes; Reset: no; RoHS: FALSE; Vin Range: -6 to -16 V; Mounting Technology: Surface Mount; ComponentLink1Description: Manufacturer URL; ComponentLink1URL: http://www.linear.com/; ComponentLink2Description: Datasheet; ComponentLink2URL: http://cds.linear.com/docs/en/datasheet/421412f.pdf; ComponentLink3Description: Package Specification; ComponentLink3URL: http://cds.linear.com/docs/en/packaging/05081661_F_MS.pdf
footprint LT-MS-10_N (SOP, 10-Leads, Body 3.1x3.1mm, Pitch 0.5mm, IPC Medium Density)
footprint LT-MS-10_L (SOP, 10-Leads, Body 3.1x3.1mm, Pitch 0.5mm, IPC High Density)
footprint LT-MS-10_M (SOP, 10-Leads, Body 3.1x3.1mm, Pitch 0.5mm, IPC Low Density)
pins: 1 VIN (power) "Positive Supply Input. Connect this pin to the positive side of the supply through a dropping resistor. A shunt regulator clamps VIN at 13V. An internal undervoltage lockout (UVLO) circuit holds GATE low until the VIN pin is (See Datasheet)", 2 ~{PWRGD} (out) "Power Good Status Output (MS only). At start-up, P\W\R\G\D\ latches low if DRAIN is below 2.385V and GATE is within 2.8V of VIN. P\W\R\G\D\ status is reset by UV, VIN (UVLO) or a circuit breaker fault timeout. This pin is (See Datasheet)", 3 SS (in) "Soft-Start Pin. This pin is used to ramp inrush current during start up, thereby effecting control over di/dt. A 20x attenuated version of the SS pin voltage is presented to the current limit amplifier. This attenuated (See Datasheet)", 4 SENSE (in) "Circuit Breaker/Current Limit Sense Pin. Load current is monitored by a sense resistor RS connected between SENSE and VEE, and controlled in three steps. If SENSE exceeds VCB (50mV), the circuit breaker comparator activates (See Datasheet)", 5 VEE (power) "Negative Supply Voltage Input. Connect this pin to the negative side of the power supply.", 6 GATE (out) "N-Channel MOSFET Gate Drive Output. This pin is pulled high by a 58uA current source. GATE is pulled low by invalid conditions at VIN (UVLO), UV, OV, or a circuit breaker fault timeout. GATE is actively servoed to control (See Datasheet)", 7 DRAIN (in) "Drain Sense Input. Connecting an external resistor, RD, between this pin and the MOSFET’s drain (VOUT) allows voltage sensing below 6.15V (5V for LTC4252C) and current feedback to TIMER. A comparator detects if DRAIN i(See Datasheet)", 8 OV (in) "Overvoltage Input. The active high threshold at the OV pin is set at 6.15V with 0.6V hysteresis. If OV > 6.15V, GATE pulls low. When OV returns below 5.55V, GATE start-up begins without an initial timing cycle. The LTC4252C (See Datasheet)", 9 UV (in) "Undervoltage Input. The active low threshold at the UV pin is set at 2.925V with 0.3V hysteresis. If UV < 2.925V, P\W\R\G\D\ pulls high, both GATE and TIMER pull low. If UV rises above 3.225V, this initiates an initial (See Datasheet)", 10 TIMER (in) "Timer Input. TIMER is used to generate an initial timing delay at start-up and to delay shutdown in the event of an output overload (circuit breaker fault). TIMER starts an initial timing cycle when the following conditions (See Datasheet)"

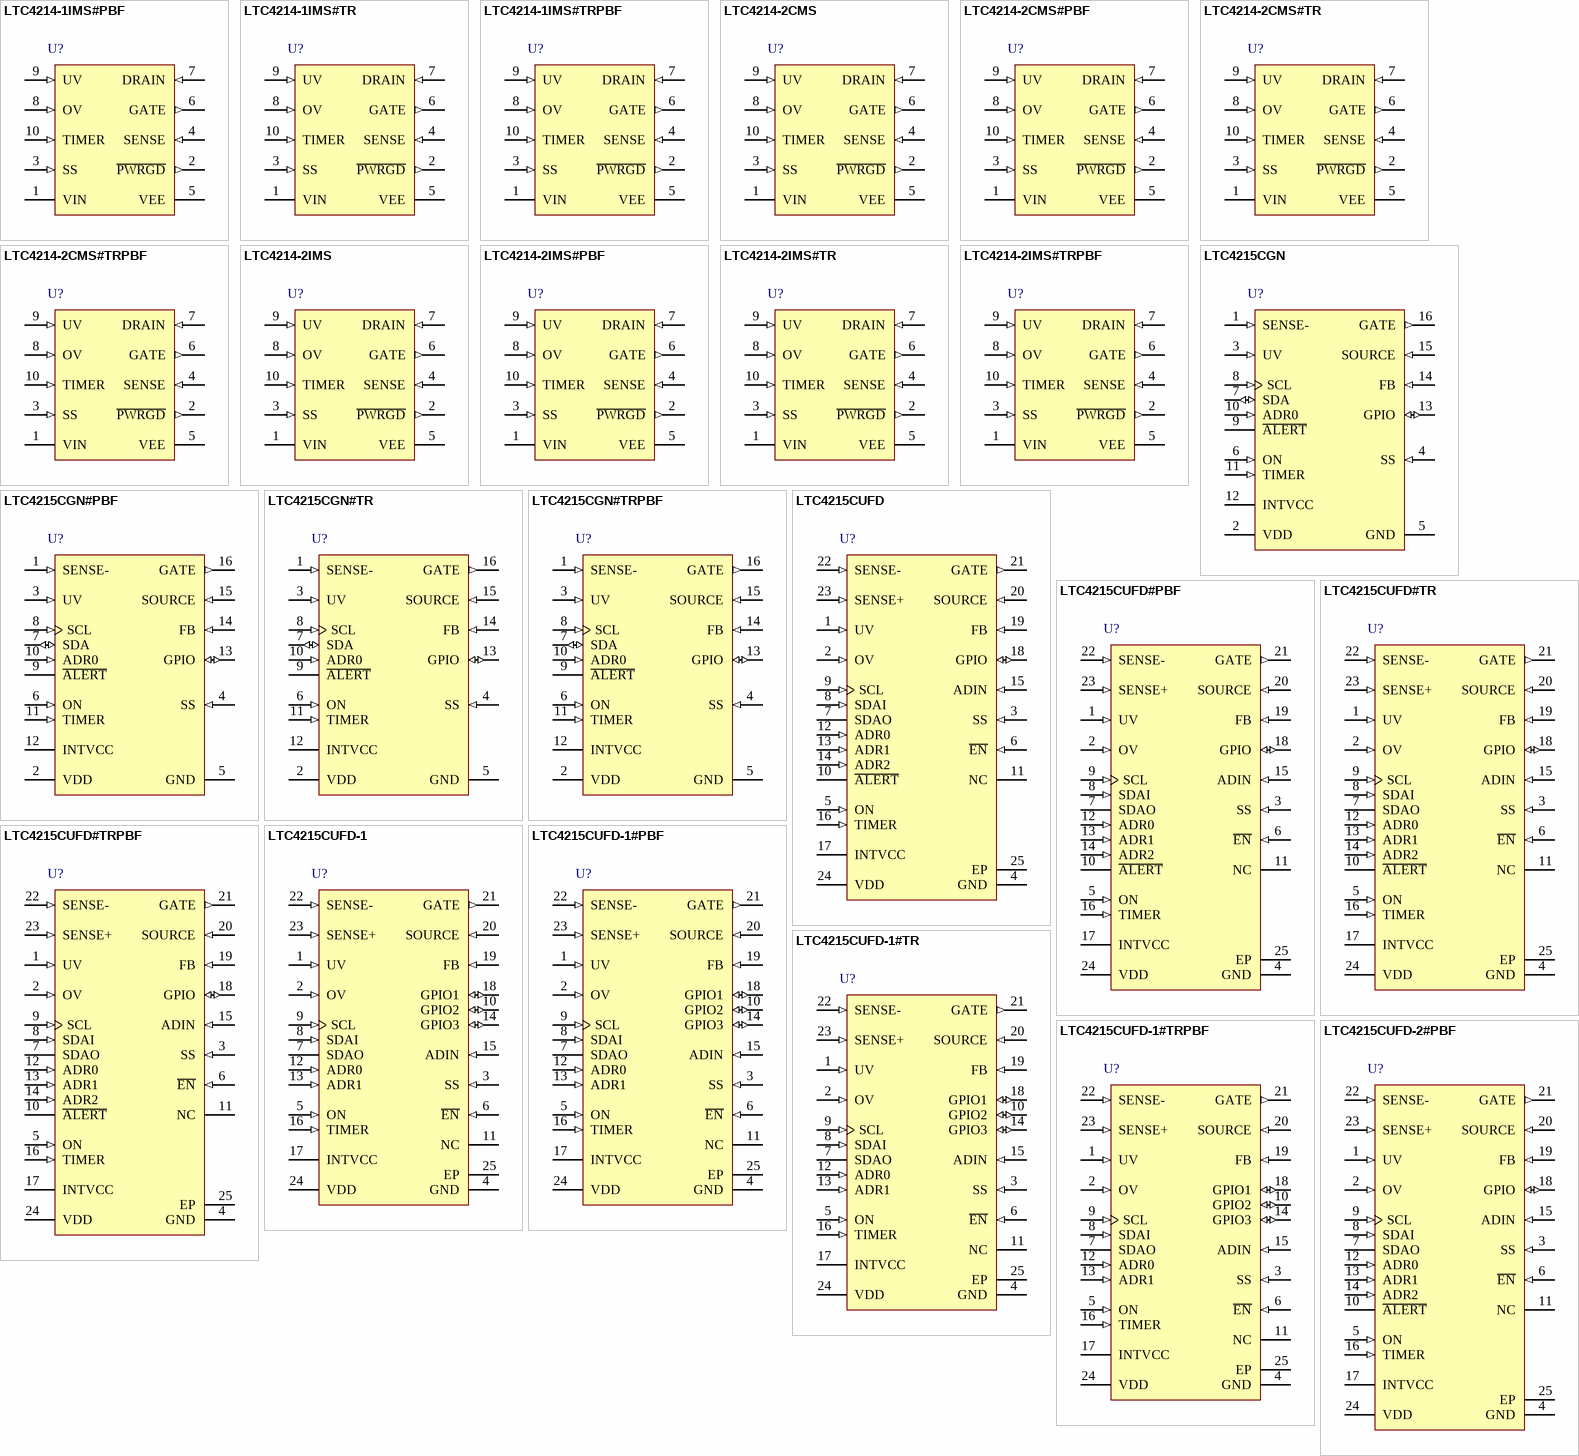
[diagram p14: symbols LTC4214-1IMS#PBF to LTC4215CUFD-2#PBF]

## LTC4214-1IMS#PBF
designator U?
Negative Low Voltage Hot Swap Controller, -6 to -16 V Vin, 10-pin SOP (MS-10), -40 to 85 degC, Pb-Free; Manufacturer: Linear Technology; PartNumber: LTC4214-1IMS#PBF; Active Limiting: yes; Circuit Breaker Accuracy(%): 12; Circuit Breaker Threshold: 50 mV; Circuit Breakers(#): 1; Extended Temp: C, I; Fault: no; In-Rush Current: Active; PackageVersion: Rev. E, 06/2010; PackageReference: MS-10; PackageDescription: 10-Pin Plastic MSOP, Body 3 x 3 mm, Pitch 0.5 mm; Supplier 1: Digi-Key; Supplier Part Number 1: LTC4214-1IMS#PBF-ND; Supplier 2: Newark; Supplier Part Number 2: 56M8812; Fast Comparator: yes; Foldback: no; Power Good: yes; Reset: no; RoHS: TRUE; Vin Range: -6 to -16 V; Mounting Technology: Surface Mount; ComponentLink1Description: Manufacturer URL; ComponentLink1URL: http://www.linear.com/; ComponentLink2Description: Datasheet; ComponentLink2URL: http://cds.linear.com/docs/en/datasheet/421412f.pdf; ComponentLink3Description: Package Specification; ComponentLink3URL: http://cds.linear.com/docs/en/packaging/05081661_F_MS.pdf
footprint LT-MS-10_N (SOP, 10-Leads, Body 3.1x3.1mm, Pitch 0.5mm, IPC Medium Density)
footprint LT-MS-10_L (SOP, 10-Leads, Body 3.1x3.1mm, Pitch 0.5mm, IPC High Density)
footprint LT-MS-10_M (SOP, 10-Leads, Body 3.1x3.1mm, Pitch 0.5mm, IPC Low Density)
pins: 1 VIN (power) "Positive Supply Input. Connect this pin to the positive side of the supply through a dropping resistor. A shunt regulator clamps VIN at 13V. An internal undervoltage lockout (UVLO) circuit holds GATE low until the VIN pin is (See Datasheet)", 2 ~{PWRGD} (out) "Power Good Status Output (MS only). At start-up, P\W\R\G\D\ latches low if DRAIN is below 2.385V and GATE is within 2.8V of VIN. P\W\R\G\D\ status is reset by UV, VIN (UVLO) or a circuit breaker fault timeout. This pin is (See Datasheet)", 3 SS (in) "Soft-Start Pin. This pin is used to ramp inrush current during start up, thereby effecting control over di/dt. A 20x attenuated version of the SS pin voltage is presented to the current limit amplifier. This attenuated (See Datasheet)", 4 SENSE (in) "Circuit Breaker/Current Limit Sense Pin. Load current is monitored by a sense resistor RS connected between SENSE and VEE, and controlled in three steps. If SENSE exceeds VCB (50mV), the circuit breaker comparator activates (See Datasheet)", 5 VEE (power) "Negative Supply Voltage Input. Connect this pin to the negative side of the power supply.", 6 GATE (out) "N-Channel MOSFET Gate Drive Output. This pin is pulled high by a 58uA current source. GATE is pulled low by invalid conditions at VIN (UVLO), UV, OV, or a circuit breaker fault timeout. GATE is actively servoed to control (See Datasheet)", 7 DRAIN (in) "Drain Sense Input. Connecting an external resistor, RD, between this pin and the MOSFET’s drain (VOUT) allows voltage sensing below 6.15V (5V for LTC4252C) and current feedback to TIMER. A comparator detects if DRAIN i(See Datasheet)", 8 OV (in) "Overvoltage Input. The active high threshold at the OV pin is set at 6.15V with 0.6V hysteresis. If OV > 6.15V, GATE pulls low. When OV returns below 5.55V, GATE start-up begins without an initial timing cycle. The LTC4252C (See Datasheet)", 9 UV (in) "Undervoltage Input. The active low threshold at the UV pin is set at 2.925V with 0.3V hysteresis. If UV < 2.925V, P\W\R\G\D\ pulls high, both GATE and TIMER pull low. If UV rises above 3.225V, this initiates an initial (See Datasheet)", 10 TIMER (in) "Timer Input. TIMER is used to generate an initial timing delay at start-up and to delay shutdown in the event of an output overload (circuit breaker fault). TIMER starts an initial timing cycle when the following conditions (See Datasheet)"